# Altium schematic symbol library MORNSUN.SchLib: 1 symbol
Pins are listed as number, name and electrical type; pins without a type are passive.

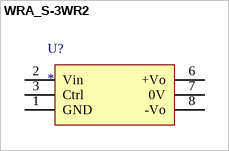
[diagram p0: symbol WRA_S-3WR2]

## WRA_S-3WR2
designator U?
footprint WRA_S-3WR2
pins: 1 GND, 2 Vin, 3 Ctrl, 6 +Vo, 7 0V, 8 -Vo